# Altium footprint library Mofset.PcbLib: 1 footprints
Each footprint in its own frame and in the unit in brackets; x right, y up, seen from the top. Pads: shape width x height; smd on the part's side, far side on the other; paste and mask are expansions set on the pad; w line width, h text height; cw(c..) or ccw(c..) is an arc to the next point about the centre after c.
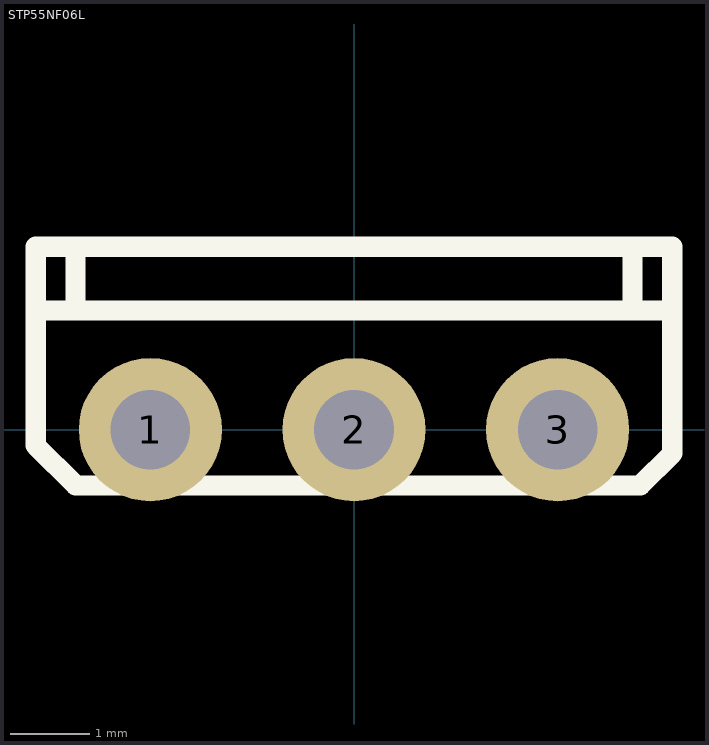
[diagram p0: the footprint, top view; thin cyan lines are the x and y axes]

## STP55NF06L [mm]
height 10
pads (3):
  round 1.8 hole 1: 1(-2.56,0) 2(0,0) 3(2.56,0)
Top Overlay:
  lines w0.254: -4,1.5 4,1.5 ; -3.5,1.5 -3.5,2.3 ; 3.5,1.5 3.5,2.3 ; -4,-0.2 -3.5,-0.7 3.6,-0.7 4,-0.3 4,2.3 -4,2.3 -4,0 -4,-0.2